# Altium schematic symbol library MB1019.SCHLIB: 69 symbols
Pins are listed as number, name and electrical type; pins without a type are passive.

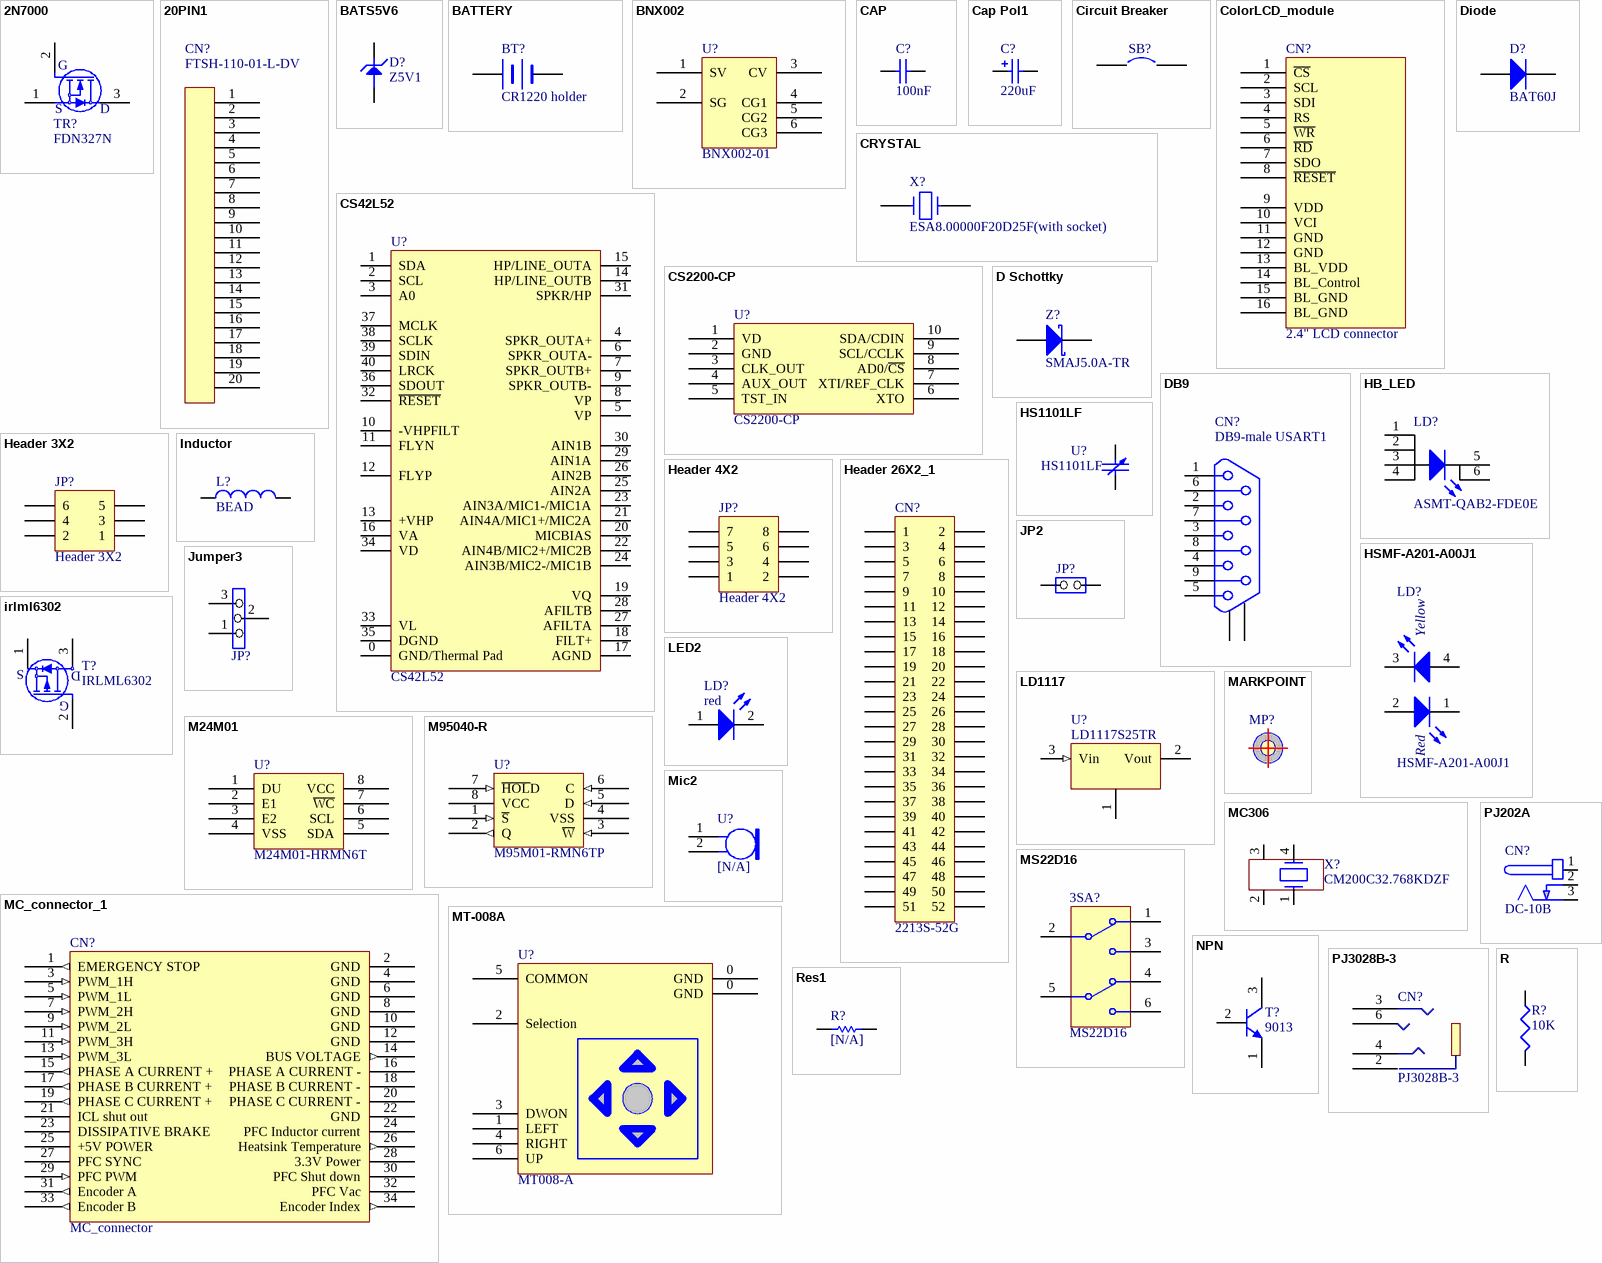
[diagram p0: symbols 2N7000 to Res1]

## 2N7000
designator TR?, comment FDN327N
footprint SOT23-3L (Footprint not found)
footprint SOT-23
pins: 1 S, 2 G, 3 D

## 20PIN1
designator CN?, comment FTSH-110-01-L-DV
footprint IDC20L (Footprint not found)
footprint IDC20S
footprint FTSH-110-01-L-DV
pins: 1, 2, 3, 4, 5, 6, 7, 8, 9, 10, 11, 12, 13, 14, 15, 16, 17, 18, 19, 20
2 alternate drawings of the same symbol

## BATS5V6
designator D?, comment Z5V1
footprint SOT-23
pins: 2, 3

## BATTERY
designator BT?, comment CR1220 holder
Battery
footprint BATT (Footprint not found)
footprint LI1220_1
pins: 1 +, 2 -
2 alternate drawings of the same symbol

## BNX002
designator U?, comment BNX002-01
footprint BNX001 (Footprint not found)
pins: 1 SV, 2 SG, 3 CV, 4 CG1, 5 CG2, 6 CG3

## CAP
designator C?, comment 100nF
Capacitor; Value: 100pF; Published: 8-Jun-2000; Revision: July-2002: Re-released for DXP Platform.; Publisher: Altium Limited
footprint RAD-0.3 (Capacitor; 2 Leads)
simulation model CAP (Capacitor)
signal-integrity model Cap
footprint CAPR5.08-7.8X3.2
footprint CAPR2.54-5.1X3.2
footprint 0603
footprint 0603P
footprint 0603C
footprint 0402C
pins: 1, 2

## Cap Pol1
designator C?, comment 220uF
Polarized Capacitor (Radial); Value: 47uF; Published: 8-Jun-2000; Revision: July-2002: Re-released for DXP Platform.; Publisher: Altium Limited
simulation model CAP (Capacitor)
signal-integrity model C310M
footprint C310M (Footprint not found)
pins: 1, 2

## Circuit Breaker
designator SB?
Circuit Breaker; Published: 24-Mar-1999; Revision: July-2002: Re-released for DXP Platform.; Publisher: Altium Limited
footprint SPST-2 (Circuit Breaker; 2 Leads)
footprint JP2_SMD
pins: 1, 2

## ColorLCD_module
designator CN?, comment 2.4" LCD connector
footprint AM240320A (Footprint not found)
footprint MB895CS (Footprint not found)
pins: 1 ~{CS}, 2 SCL, 3 SDI, 4 RS, 5 ~{WR}, 6 ~{RD}, 7 SDO, 8 ~{RESET}, 9 VDD, 10 VCI, 11 GND, 12 GND, 13 BL_VDD, 14 BL_Control, 15 BL_GND, 16 BL_GND

## CRYSTAL
designator X?, comment ESA8.00000F20D25F(with socket)
Crystal
footprint XTAL1 (Footprint not found)
footprint XTAL_socket
pins: 1, 2
2 alternate drawings of the same symbol

## CS42L52
designator U?
footprint QFN40 (Footprint not found)
footprint QFN40(6*6)
pins: 0 GND/Thermal Pad, 1 SDA, 2 SCL, 3 A0, 4 SPKR_OUTA+, 5 VP, 6 SPKR_OUTA-, 7 SPKR_OUTB+, 8 VP, 9 SPKR_OUTB-, 10 -VHPFILT, 11 FLYN, 12 FLYP, 13 +VHP, 14 HP/LINE_OUTB, 15 HP/LINE_OUTA, 16 VA, 17 AGND, 18 FILT+, 19 VQ, 20 MICBIAS, 21 AIN4A/MIC1+/MIC2A, 22 AIN4B/MIC2+/MIC2B, 23 AIN3A/MIC1-/MIC1A, 24 AIN3B/MIC2-/MIC1B, 25 AIN2A, 26 AIN2B, 27 AFILTA, 28 AFILTB, 29 AIN1A, 30 AIN1B, 31 SPKR/HP, 32 ~{RESET}, 33 VL, 34 VD, 35 DGND, 36 SDOUT, 37 MCLK, 38 SCLK, 39 SDIN, 40 LRCK

## CS2200-CP
designator U?
footprint MSOP10(0.5) (Footprint not found)
pins: 1 VD, 2 GND, 3 CLK_OUT, 4 AUX_OUT, 5 TST_IN, 6 XTO, 7 XTI/REF_CLK, 8 AD0/~{CS}, 9 SCL/CCLK, 10 SDA/CDIN

## D Schottky
designator Z?, comment SMAJ5.0A-TR
Schottky Diode; Code - JEDEC: DO-214-AA; Published: 8-Jun-2000; Revision: July-2002: Re-released for DXP Platform.; Publisher: Altium Limited
footprint 1R1C (Footprint not found)
pins: 1 A, 2 K

## DB9
designator CN?, comment DB9-male USART1
footprint DB9/M (Footprint not found)
pins: 0, 0 10, 1, 2, 3, 4, 5, 6, 7, 8, 9
2 alternate drawings of the same symbol

## Diode
designator D?, comment BAT60J
Default Diode; Code - JEDEC: DO-214-AB; Published: 8-Jun-2000; Revision: July-2002: Re-released for DXP Platform.; Publisher: Altium Limited
footprint DSO-C2/X3.3 (DO-214-AB/SMC; 2 C-Bend Leads; Body 7.9 x 5.9 mm, inc. leads (LxW))
simulation model DIODE (Diode)
signal-integrity model Diode
footprint SOD-323 (Footprint not found)
pins: 1 A, 2 K

## HB_LED
designator LD?, comment ASMT-QAB2-FDE0E
High brightness LED; Published: 8-Jun-2000; Revision: July-2002: Re-released for DXP Platform.; Publisher: Altium Limited
footprint PLCC4 (Footprint not found)
pins: 1 A, 2 A, 3 A, 4 A, 5 K, 6 K

## Header 3X2
designator JP?
Header, 3-Pin, Dual row; Revision: 17-Jul-2002: Re-released for DXP Platform.; Publisher: Altium Limited
footprint HDR2X3 (Connector; Header; 3x2 Position)
signal-integrity model Connector
footprint 2*3P
pins: 1, 2, 3, 4, 5, 6

## Header 4X2
designator JP?
Header, 4-Pin, Dual row; Revision: 17-Jul-2002: Re-released for DXP Platform.; Publisher: Altium Limited
footprint HDR2X4 (Connector; Header; 4x2 Position)
signal-integrity model Connector
footprint 2*4P
pins: 1, 2, 3, 4, 5, 6, 7, 8

## Header 26X2_1
designator CN?, comment 2213S-52G
Header, 26-Pin, Dual row; Revision: 17-Jul-2002: Re-released for DXP Platform.; Publisher: Altium Limited
footprint 2*26P (Footprint not found)
signal-integrity model Connector
pins: 1, 2, 3, 4, 5, 6, 7, 8, 9, 10, 11, 12, 13, 14, 15, 16, 17, 18, 19, 20, 21, 22, 23, 24, 25, 26, 27, 28, 29, 30, 31, 32, 33, 34, 35, 36, 37, 38, 39, 40, 41, 42, 43, 44, 45, 46, 47, 48, 49, 50, 51, 52

## HS1101LF
designator U?
footprint CAP1101 (Footprint not found)
footprint HS1101LF (Footprint not found)
pins: 1, 2

## HSMF-A201-A00J1
designator LD?
footprint led (Footprint not found)
footprint LED2-28*32
pins: 1 RED_cathode, 2 Red_anode, 3 YellowGreen_cathode, 4 YellowGreen_anode
text: Yellow; Red

## Inductor
designator L?, comment BEAD
Inductor; Value: 100uH; Published: 8-Jun-2000; Revision: July-2002: Re-released for DXP Platform.; Publisher: Altium Limited
footprint 0603 (Footprint not found)
footprint 0603C
footprint 0603L
pins: 1, 2

## irlml6302
designator T?, comment IRLML6302
footprint Model Name (Footprint not found)
footprint SOT-23 (Footprint not found)
pins: 1 S, 2 G, 3 D

## JP2
designator JP?
footprint SIP2 (Footprint not found)
pins: 1 COMMON, 2 NO

## Jumper3
designator JP?
footprint SIP3 (Footprint not found)
pins: 1, 2, 3

## LD1117
designator U?, comment LD1117S25TR
footprint SOT-223
pins: 1, 2 Vout (power), 3 Vin (in)
2 alternate drawings of the same symbol

## LED2
designator LD?, comment red
Typical RED, GREEN, YELLOW, AMBER GaAs LED; Published: 8-Jun-2000; Revision: July-2002: Re-released for DXP Platform.; Publisher: Altium Limited
footprint D0603 (Footprint not found)
footprint 0603D
pins: 1 A, 2 K

## M24M01
designator U?, comment M24M01-HRMN6T
footprint SO8 (Footprint not found)
pins: 1 DU, 2 E1, 3 E2, 4 VSS, 5 SDA, 6 SCL, 7 ~{WC}, 8 VCC

## M95040-R
designator U?, comment M95M01-RMN6TP
footprint VDFPN8(8*6) (Footprint not found)
footprint TSSOP8 (Shrink Small Outline, Plastic, Thin; 8 Leads; Body Width 4.4 mm; Pitch 0.65 mm)
footprint SO8N (Footprint not found)
footprint SO8
pins: 1 ~{S} (in), 2 Q (out), 3 ~{W} (in), 4 VSS (power), 5 D (in), 6 C (in), 7 ~{HOL}D (in), 8 VCC (power)

## MARKPOINT
designator MP?
footprint markpoint_1.0

## MC306
designator X?, comment CM200C32.768KDZF
footprint SM8 (Footprint not found)
pins: 1, 2, 3, 4

## MC_connector_1
designator CN?, comment MC_connector
footprint IDC34S (Footprint not found)
pins: 1 EMERGENCY STOP (out), 2 GND (power), 3 PWM_1H (in), 4 GND (power), 5 PWM_1L (in), 6 GND (power), 7 PWM_2H (in), 8 GND (power), 9 PWM_2L (in), 10 GND (power), 11 PWM_3H (in), 12 GND (power), 13 PWM_3L (in), 14 BUS VOLTAGE (out), 15 PHASE A CURRENT + (out), 16 PHASE A CURRENT - (power), 17 PHASE B CURRENT + (out), 18 PHASE B CURRENT - (power), 19 PHASE C CURRENT + (out), 20 PHASE C CURRENT - (power), 21 ICL shut out, 22 GND (power), 23 DISSIPATIVE BRAKE, 24 PFC Inductor current, 25 +5V POWER (power), 26 Heatsink Temperature (out), 27 PFC SYNC, 28 3.3V Power (power), 29 PFC PWM (in), 30 PFC Shut down, 31 Encoder A (out), 32 PFC Vac, 33 Encoder B (out), 34 Encoder Index (out)

## Mic2
designator U?, comment [N/A]
Microphone; Published: 24-Mar-1999; Revision: July-2002: Re-released for DXP Platform.; Publisher: Altium Limited
footprint KEC2740 (Footprint not found)
pins: 1, 2

## MS22D16
designator 3SA?
DPDT; Revision 1: Jul-2002: Re-released for DXP Platform.; Revision 2: 17-Dec-2003: Schematic revised, PCB Footprint replaced.; Published: 24-Mar-1999; Datasheet: Latest Revision: 05-Dec-2000; Publisher: Altium Limited
footprint 6-pin switch (Footprint not found)
footprint MS22D16 (Footprint not found)
pins: 1, 2, 3, 4, 5, 6

## MT-008A
designator U?, comment MT008-A
footprint JOY (Footprint not found)
pins: 0 GND, 0 GND, 1 LEFT, 2 Selection, 3 DWON, 4 RIGHT, 5 COMMON, 6 UP

## NPN
designator T?, comment 9013
NPN Bipolar Transistor; Code - JEDEC: TO-226-AA; Published: 8-Jun-2000; Revision: July-2002: Re-released for DXP Platform.; Publisher: Altium Limited
footprint BCY-W3 (TO, Flat Index; 3 In-Line, Axial Leads; Body Dia. 4.8mm)
simulation model NPN
signal-integrity model NPN
footprint SOT-23
pins: 1 E, 2 B, 3 C

## PJ202A
designator CN?, comment DC-10B
footprint DC10B (Footprint not found)
pins: 1 +, 2 GND, 3 GND

## PJ3028B-3
designator CN?
footprint PJ3028B (Footprint not found)
pins: 2, 3, 4, 6

## R
designator R?, comment 10K
Right: 20; Bottom: 30
footprint 0402R (Footprint not found)
footprint 0603R
pins: 1, 2
2 alternate drawings of the same symbol

## Res1
designator R?, comment [N/A]
Resistor; Value: 1K; Published: 8-Jun-2000; Revision: July-2002: Re-released for DXP Platform.; Publisher: Altium Limited
footprint AXIAL-0.3 (Resistor; 2 Leads)
simulation model RESISTOR (Resistor)
signal-integrity model Res
footprint 0603
footprint 0603 (Footprint not found)
footprint 0603R
pins: 1, 2
1 alternate drawing of the same symbol

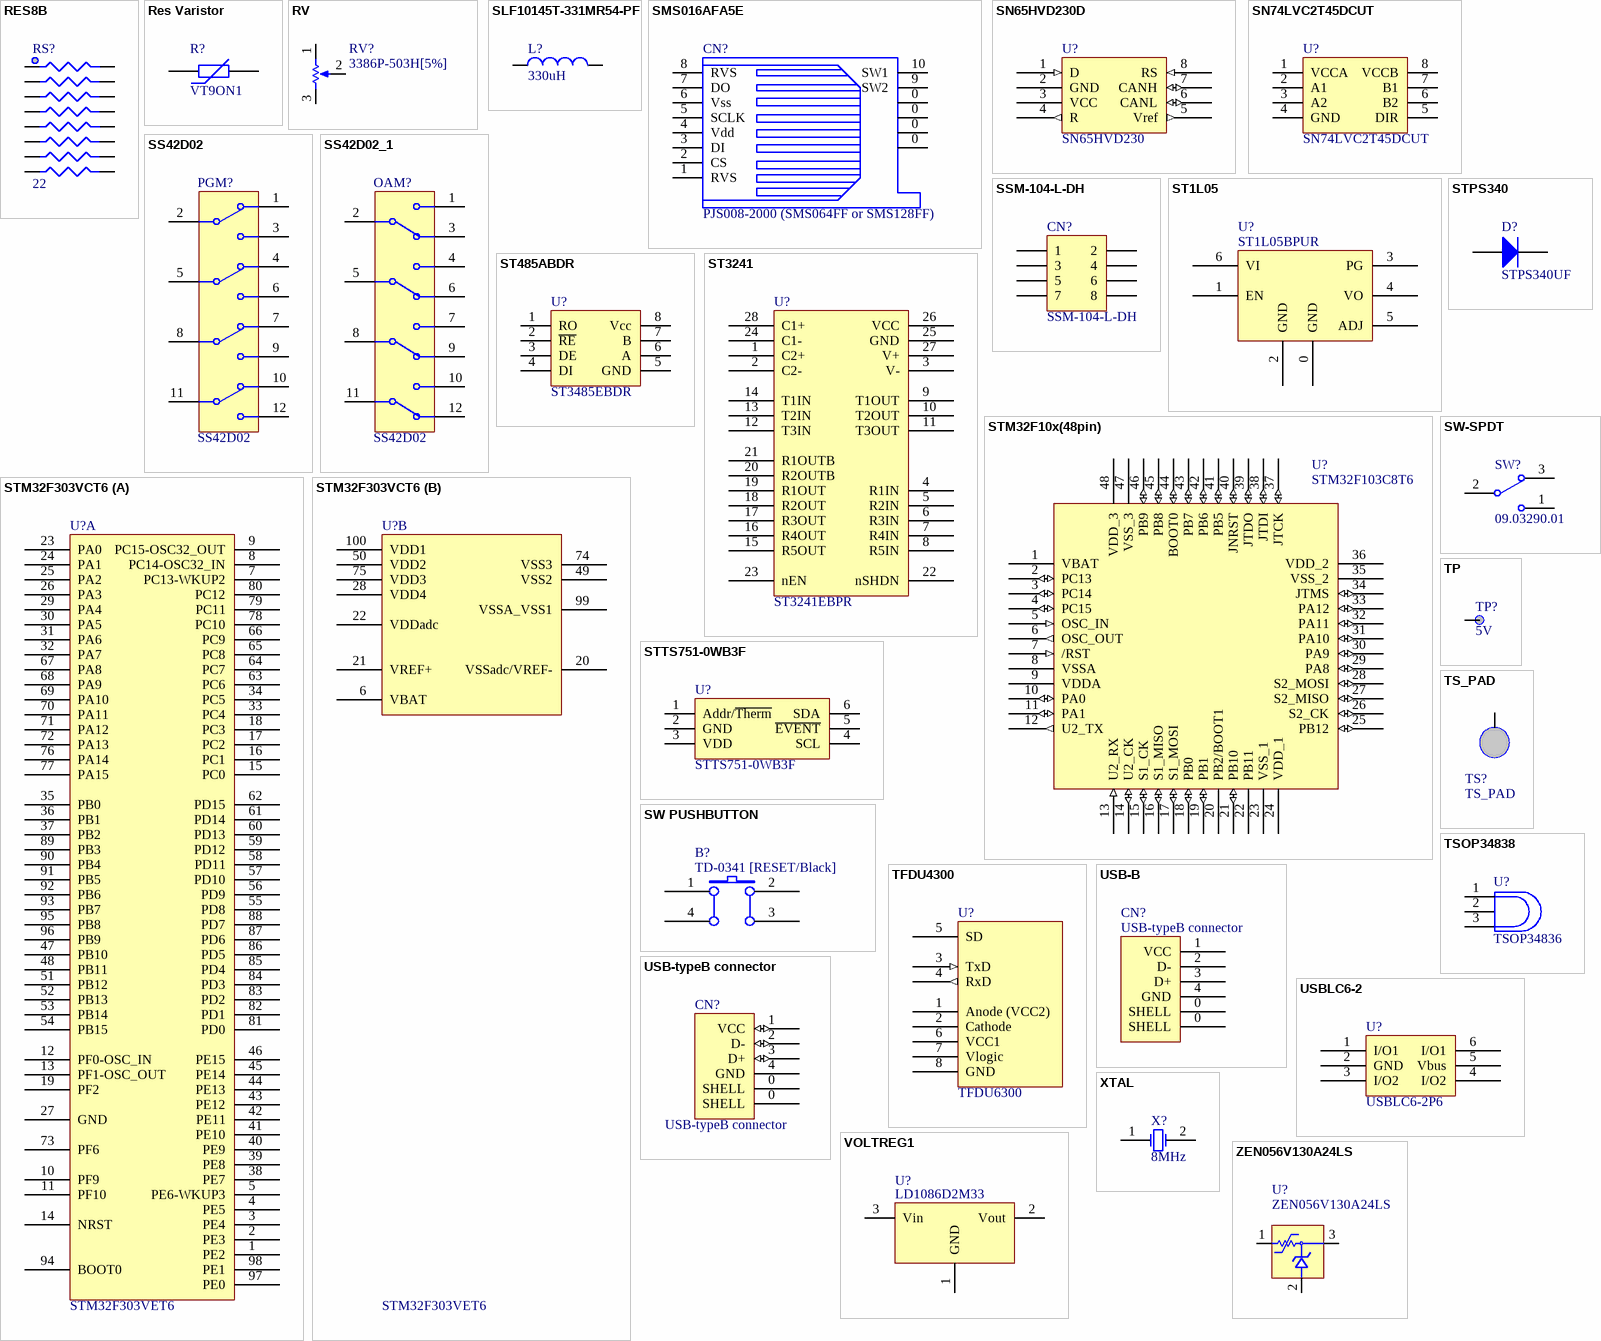
[diagram p1: symbols RES8B to ZEN056V130A24LS]

## RES8B
designator RS?, comment 22
footprint RES8B_0402
pins: 1, 2, 3, 4, 5, 6, 7, 8, 9, 10, 11, 12, 13, 14, 15, 16

## Res Varistor
designator R?, comment VT9ON1
Varistor (Voltage-Sensitive Resistor); Published: 24-Mar-1999; Revision: July-2002: Re-released for DXP Platform.; Publisher: Altium Limited
footprint VT9ON1 (Footprint not found)
footprint PVT901
pins: 1, 2

## RV
designator RV?, comment 3386P-503H[5%]
footprint ADJRH (Footprint not found)
footprint 3296W
pins: 1 BOT, 2 TAP, 3 TOP

## SLF10145T-331MR54-PF
designator L?, comment 330uH
Inductor; Value: 100uH; Published: 8-Jun-2000; Revision: July-2002: Re-released for DXP Platform.; Publisher: Altium Limited
footprint SLF10145 (Footprint not found)
pins: 1, 2

## SMS016AFA5E
designator CN?, comment PJS008-2000 (SMS064FF or SMS128FF)
footprint MSD(PJS008) (Footprint not found)
pins: 0, 0, 0, 0, 1 RVS, 2 CS, 3 DI, 4 Vdd, 5 SCLK, 6 Vss, 7 DO, 8 RVS, 9 SW2, 10 SW1

## SN65HVD230D
designator U?, comment SN65HVD230
footprint SO8 (Small Outline; 8 Leads; Body Width 3.9 mm; Pitch 1.27 mm)
pins: 1 D (in), 2 GND (power), 3 VCC (power), 4 R (out), 5 Vref (out), 6 CANL (io), 7 CANH (io), 8 RS (in)

## SN74LVC2T45DCUT
designator U?
footprint VSSOP8 (Footprint not found)
pins: 1 VCCA, 2 A1, 3 A2, 4 GND, 5 DIR, 6 B2, 7 B1, 8 VCCB

## SS42D02
designator PGM?
SPDT Subminiature Toggle Switch, Right Angle Mounting, Vertical Actuation; Revision 1: Jul-2002: Re-released for DXP Platform.; Revision 2: 17-Dec-2003: Schematic revised, PCB Footprint replaced.; Published: 24-Mar-1999; Datasheet: Latest Revision: 05-Dec-2000; Publisher: Altium Limited
footprint SS42D02 (Footprint not found)
pins: 1, 2, 3, 4, 5, 6, 7, 8, 9, 10, 11, 12

## SS42D02_1
designator OAM?, comment SS42D02
SPDT Subminiature Toggle Switch, Right Angle Mounting, Vertical Actuation; Revision 1: Jul-2002: Re-released for DXP Platform.; Revision 2: 17-Dec-2003: Schematic revised, PCB Footprint replaced.; Published: 24-Mar-1999; Datasheet: Latest Revision: 05-Dec-2000; Publisher: Altium Limited
footprint SS42D02 (Footprint not found)
pins: 1, 2, 3, 4, 5, 6, 7, 8, 9, 10, 11, 12

## SSM-104-L-DH
designator CN?
Header, 5-Pin, Dual row; Revision: 17-Jul-2002: Re-released for DXP Platform.; Publisher: Altium Limited
footprint SSM-104-L-DH (Footprint not found)
pins: 1, 2, 3, 4, 5, 6, 7, 8

## ST1L05
designator U?, comment ST1L05BPUR
footprint DFN6
footprint DFN6(3X3)
pins: 0 GND, 1 EN, 2 GND, 3 PG, 4 VO, 5 ADJ, 6 VI
2 alternate drawings of the same symbol

## ST485ABDR
designator U?, comment ST3485EBDR
footprint SO-8 (Footprint not found)
footprint SO8
pins: 1 RO, 2 ~{RE}, 3 DE, 4 DI, 5 GND, 6 A, 7 B, 8 Vcc

## ST3241
designator U?, comment ST3241EBPR
footprint SSOP28 (Footprint not found)
pins: 1 C2+, 2 C2-, 3 V-, 4 R1IN, 5 R2IN, 6 R3IN, 7 R4IN, 8 R5IN, 9 T1OUT, 10 T2OUT, 11 T3OUT, 12 T3IN, 13 T2IN, 14 T1IN, 15 R5OUT, 16 R4OUT, 17 R3OUT, 18 R2OUT, 19 R1OUT, 20 R2OUTB, 21 R1OUTB, 22 nSHDN, 23 nEN, 24 C1-, 25 GND, 26 VCC, 27 V+, 28 C1+
2 alternate drawings of the same symbol

## STM32F10x(48pin)
designator U?, comment STM32F103C8T6
footprint TQ48
footprint LQFP48
pins: 1 VBAT (power), 2 PC13 (io), 3 PC14 (io), 4 PC15 (io), 5 OSC_IN (in), 6 OSC_OUT (out), 7 /RST (in), 8 VSSA, 9 VDDA (power), 10 PA0 (io), 11 PA1 (io), 12 U2_TX (out), 13 U2_RX (in), 14 U2_CK (io), 15 S1_CK (io), 16 S1_MISO (io), 17 S1_MOSI (io), 18 PB0 (io), 19 PB1 (io), 20 PB2/BOOT1, 21 PB10 (io), 22 PB11, 23 VSS_1, 24 VDD_1 (power), 25 PB12 (io), 26 S2_CK (io), 27 S2_MISO (io), 28 S2_MOSI (io), 29 PA8 (io), 30 PA9 (io), 31 PA10 (io), 32 PA11 (io), 33 PA12 (io), 34 JTMS (io), 35 VSS_2, 36 VDD_2 (power), 37 JTCK (io), 38 JTDI (io), 39 JTDO (io), 40 JNRST (io), 41 PB5 (io), 42 PB6 (io), 43 PB7 (io), 44 BOOT0 (io), 45 PB8 (io), 46 PB9 (io), 47 VSS_3, 48 VDD_3 (power)
2 alternate drawings of the same symbol

## STM32F303VCT6
designator U?, comment STM32F303VET6
footprint LQFP100 (Footprint not found)
footprint TQ100_TOOL
footprint IC149-100-025-B5
part A pins: 1 PE2, 2 PE3, 3 PE4, 4 PE5, 5 PE6-WKUP3, 7 PC13-WKUP2, 8 PC14-OSC32_IN, 9 PC15-OSC32_OUT, 10 PF9, 11 PF10, 12 PF0-OSC_IN, 13 PF1-OSC_OUT, 14 NRST, 15 PC0, 16 PC1, 17 PC2, 18 PC3, 19 PF2, 23 PA0, 24 PA1, 25 PA2, 26 PA3, 27 GND, 29 PA4, 30 PA5, 31 PA6, 32 PA7, 33 PC4, 34 PC5, 35 PB0, 36 PB1, 37 PB2, 38 PE7, 39 PE8, 40 PE9, 41 PE10, 42 PE11, 43 PE12, 44 PE13, 45 PE14, 46 PE15, 47 PB10, 48 PB11, 51 PB12, 52 PB13, 53 PB14, 54 PB15, 55 PD8, 56 PD9, 57 PD10, 58 PD11, 59 PD12, 60 PD13, 61 PD14, 62 PD15, 63 PC6, 64 PC7, 65 PC8, 66 PC9, 67 PA8, 68 PA9, 69 PA10, 70 PA11, 71 PA12, 72 PA13, 73 PF6, 76 PA14, 77 PA15, 78 PC10, 79 PC11, 80 PC12, 81 PD0, 82 PD1, 83 PD2, 84 PD3, 85 PD4, 86 PD5, 87 PD6, 88 PD7, 89 PB3, 90 PB4, 91 PB5, 92 PB6, 93 PB7, 94 BOOT0, 95 PB8, 96 PB9, 97 PE0, 98 PE1
part B pins: 6 VBAT, 20 VSSadc/VREF-, 21 VREF+, 22 VDDadc, 28 VDD4, 49 VSS2, 50 VDD2, 74 VSS3, 75 VDD3, 99 VSSA_VSS1, 100 VDD1

## STPS340
designator D?, comment STPS340UF
Default Diode; Code - JEDEC: DO-214-AB; Published: 8-Jun-2000; Revision: July-2002: Re-released for DXP Platform.; Publisher: Altium Limited
footprint DSO-C2/X3.3 (DO-214-AB/SMC; 2 C-Bend Leads; Body 7.9 x 5.9 mm, inc. leads (LxW))
simulation model DIODE (Diode)
signal-integrity model Diode
footprint SOD-323 (Footprint not found)
footprint SMB (Footprint not found)
pins: 1 A, 2 K

## STTS751-0WB3F
designator U?
footprint SOT23-6L (Footprint not found)
pins: 1 Addr/~{Therm}, 2 GND, 3 VDD, 4 SCL, 5 ~{EVENT}, 6 SDA

## SW PUSHBUTTON
designator B?, comment TD-0341 [RESET/Black]
SE PUSHBUTTON
footprint PB (Footprint not found)
footprint PB10
pins: 1 A0, 2 B0, 3 B1, 4 A1

## SW-SPDT
designator SW?, comment 09.03290.01
SPDT Subminiature Toggle Switch, Right Angle Mounting, Vertical Actuation; Revision 1: Jul-2002: Re-released for DXP Platform.; Revision 2: 17-Dec-2003: Schematic revised, PCB Footprint replaced.; Published: 24-Mar-1999; Datasheet: Latest Revision: 05-Dec-2000; Publisher: Altium Limited
footprint SIP3 (Footprint not found)
pins: 1, 2, 3

## TFDU4300
designator U?, comment TFDU6300
TFDU4300
footprint IR_VISHAY3 (Footprint not found)
pins: 1 Anode (VCC2), 2 Cathode, 3 TxD (in), 4 RxD (out), 5 SD, 6 VCC1, 7 Vlogic, 8 GND
2 alternate drawings of the same symbol

## TP
designator TP?, comment 5V
footprint TP (Footprint not found)
pins: 1

## TS_PAD
designator TS?
footprint Model Name (Footprint not found)
footprint TS_PAD
pins: 1

## TSOP34838
designator U?, comment TSOP34836
footprint TSOP348 (Footprint not found)
pins: 1 OUT, 2 GND, 3 Vs

## USB-B
designator CN?, comment USB-typeB connector
USB-B
footprint USB-B (Footprint not found)
pins: 0 SHELL, 0 SHELL, 1 VCC, 2 D-, 3 D+, 4 GND

## USB-typeB connector
designator CN?
footprint USB/B MINI
footprint USB-B
pins: 0 SHELL (power), 0 SHELL (power), 1 VCC (io), 2 D- (io), 3 D+ (io), 4 GND
2 alternate drawings of the same symbol

## USBLC6-2
designator U?, comment USBLC6-2P6
footprint SOT-666 (Footprint not found)
pins: 1 I/O1, 2 GND, 3 I/O2, 4 I/O2, 5 Vbus, 6 I/O1

## VOLTREG1
designator U?, comment LD1086D2M33
footprint D2PAK/A (Footprint not found)
pins: 1 GND, 2 Vout, 3 Vin
2 alternate drawings of the same symbol

## XTAL
designator X?, comment 8MHz
Crystal Oscillator; Published: 8-Jun-2000; LatestRevisionDate: 17-Jul-2002; LatestRevisionNote: Re-released for DXP Platform.; PackageReference: R38; Publisher: Altium Limited
footprint R38
footprint XTAL1
footprint SMT_XTAL
pins: 1 OSC1, 2 OSC2
2 alternate drawings of the same symbol

## ZEN056V130A24LS
designator U?
footprint polyzen (Footprint not found)
pins: 1, 2, 3